# Altium schematic symbol library Diodes.SchLib: 2 symbols
Pins are listed as number, name and electrical type; pins without a type are passive.

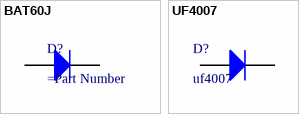
[diagram p0: symbols BAT60J to UF4007]

## BAT60J
designator D?
Защитный диод
pins: 1 K, 2 A

## UF4007
designator D?, comment uf4007
Защитный быстродействующий диод
footprint UF4007 (Footprint not found)
pins: 1 A, 2 K